# EAGLE library part IN-7 (library nixies.us)
IN-7: large symbol topview nixie tube
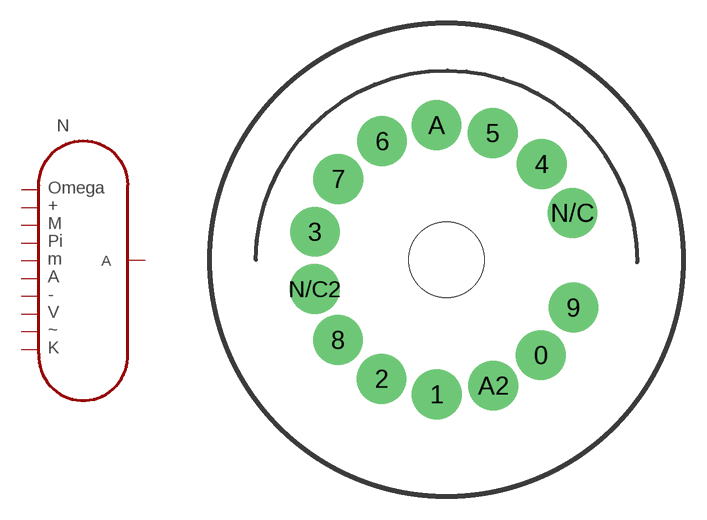
[diagram p16: symbol with the pads of IN-18; footprint IN-18]

Designator prefix N

## IN-7  [IN-18]
0  P$10
1  P$1
3  P$8
4  A
6  P$5
7  P$6
8  P$3
9  P$7
A  P$2
A2  P$9
N/C  P$4

## Footprint IN-18 (pad centres in mm)
May be used with socket: PL31-P
drill 2.3 pad 3.2: 0 6.282,-6.357; 1 -0.645,-8.971; 2 -4.33,-7.938; 3 -8.76,1.863; 4 6.35,6.382; 5 3.09,8.449; 6 -4.291,7.907; 7 -7.214,5.386; 8 -7.228,-5.344; 9 8.456,-3.189; A -0.659,8.976; A2 3.123,-8.394; N/C 8.394,3.123; N/C2 -8.781,-1.948
hole 5 at 0,0